# EAGLE library part MTL-EAGLE-BIBLIOTHEK_79L*SMD (library Piezoverstärker_v3.0)
Negative VOLTAGE REGULATOR
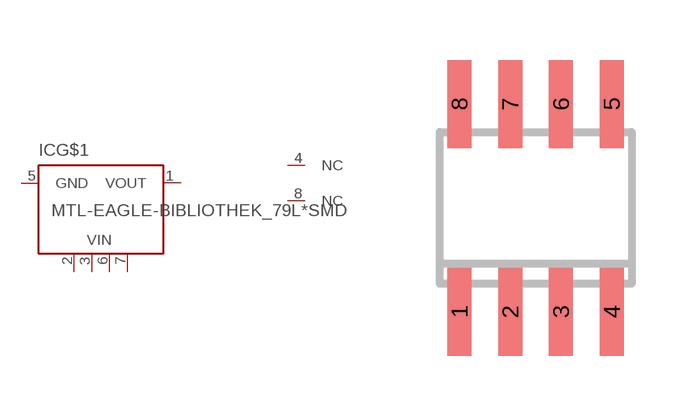
[diagram p0: symbol with the pads of MTL-EAGLE-BIBLIOTHEK_SO08; footprint MTL-EAGLE-BIBLIOTHEK_SO08]

Designator prefix IC; gates G$1=MTL-EAGLE-BIBLIOTHEK_LM79LXX NC=MTL-EAGLE-BIBLIOTHEK_NC NC4=MTL-EAGLE-BIBLIOTHEK_NC

## MTL-EAGLE-BIBLIOTHEK_79LSMD, MTL-EAGLE-BIBLIOTHEK_79L05SMD, MTL-EAGLE-BIBLIOTHEK_79L06SMD, MTL-EAGLE-BIBLIOTHEK_79L08SMD, MTL-EAGLE-BIBLIOTHEK_79L12SMD, MTL-EAGLE-BIBLIOTHEK_79L15SMD, MTL-EAGLE-BIBLIOTHEK_79L18SMD, MTL-EAGLE-BIBLIOTHEK_79L24SMD  [MTL-EAGLE-BIBLIOTHEK_SO08]
1  G$1:VOUT  out
2  G$1:VIN  pwr
3  G$1:VIN  pwr
4  NC4:NC  nc
5  G$1:GND  pas
6  G$1:VIN  pwr
7  G$1:VIN  pwr
8  NC:NC  nc

## Footprint MTL-EAGLE-BIBLIOTHEK_SO08 (pad centres in mm)
Small Outline Package 8 NS Package M08A
smd 0.6 x 2.2: 1 -1.905,-2.6; 2 -0.635,-2.6; 3 0.635,-2.6; 4 1.905,-2.6; 5 1.905,2.6; 6 0.635,2.6; 7 -0.635,2.6; 8 -1.905,2.6